# EAGLE library part BOARD-I2C (library eagleLib v2)
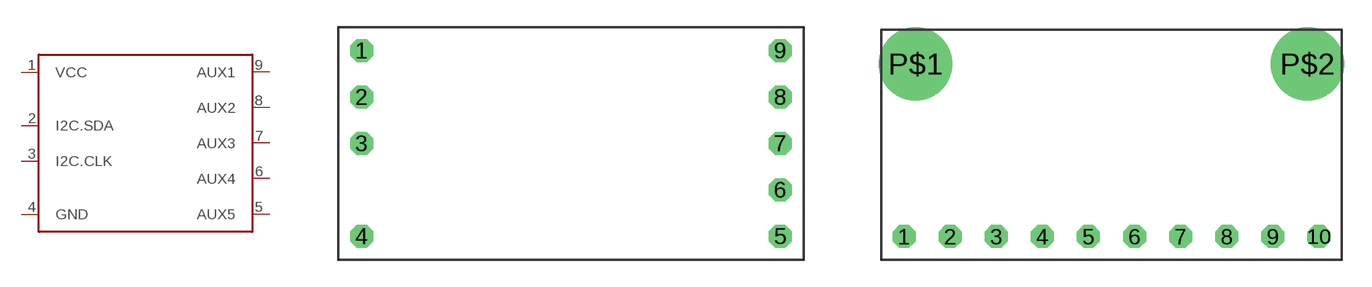
[diagram p58: symbol with the pads of BOARD-I2C; footprints BOARD-I2C, BOARD-I2C-MOD]

Designator prefix -

## BOARD-I2C1  [BOARD-I2C]
1  VCC
2  I2C.SDA
3  I2C.CLK
4  GND
5  AUX5
6  AUX4
7  AUX3
8  AUX2
9  AUX1

## BOARD-I2C2  [BOARD-I2C-MOD]
1  AUX1
2  AUX2
3  AUX3
4  AUX4
5  AUX5
7  GND
8  I2C.CLK
9  I2C.SDA
10  VCC

## Footprint BOARD-I2C (pad centres in mm)
drill 0.635 pad 1.27 octagon: 1 -11.43,5.08; 2 -11.43,2.54; 3 -11.43,0; 4 -11.43,-5.08; 5 11.43,-5.08; 6 11.43,-2.54; 7 11.43,0; 8 11.43,2.54; 9 11.43,5.08

## Footprint BOARD-I2C-MOD (pad centres in mm)
drill 0.635 pad 1.27 octagon: 1 -11.43,-5.08; 2 -8.89,-5.08; 3 -6.35,-5.08; 4 -3.81,-5.08; 5 -1.27,-5.08; 6 1.27,-5.08; 7 3.81,-5.08; 8 6.35,-5.08; 9 8.89,-5.08; 10 11.43,-5.08
drill 3.048 pad 3.81: P$1 -10.795,4.445; P$2 10.795,4.445